# Altium footprint library KSD203AC2.PcbLib: 1 footprints
Each footprint in its own frame and in the unit in brackets; x right, y up, seen from the top. Pads: shape width x height; smd on the part's side, far side on the other; paste and mask are expansions set on the pad; w line width, h text height; cw(c..) or ccw(c..) is an arc to the next point about the centre after c.
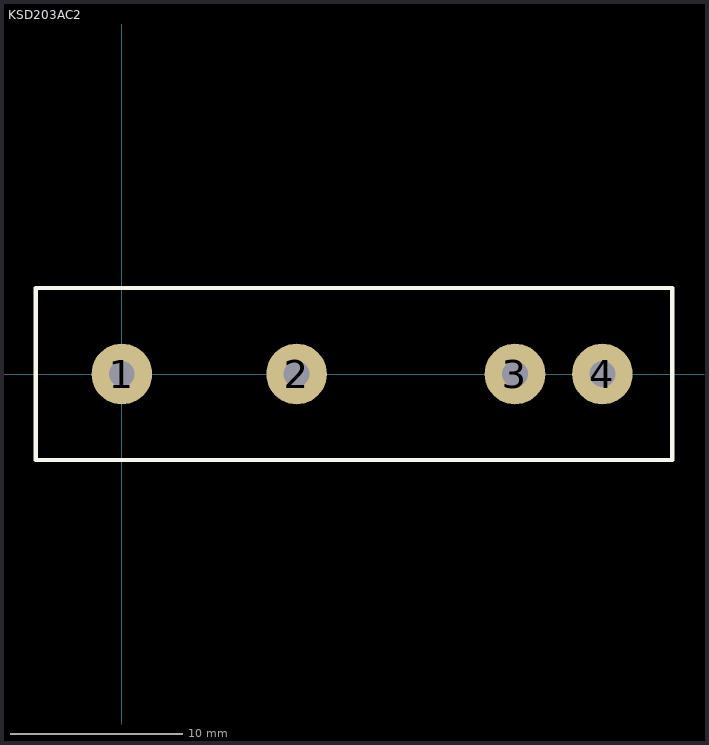
[diagram p0: the footprint, top view; thin cyan lines are the x and y axes]

## KSD203AC2 [mm]
pads (4):
  round 3.524 hole 1.5: 1(0,0) 2(10.16,0) 3(22.86,0) 4(27.94,0)
Top Layer:
  text "+" at 22,3 h1.52
  text "-" at 28,3 h1.52
  text "~" at -1,2 h1.52
  text "~" at 9,2 h1.52
Top Overlay:
  lines w0.254: -5,-5 32,-5 32,5 -5,5 -5,-5